# EAGLE library part HY_SX1276 (library lieBtrau)
Order from AliExpress <https://www.aliexpress.com/item/2-pcs-LOra-Spreading-High-Sensitivity-XL1276-D01-XS1278-Wireless-Transceiver-Module-433MHz/32322666735.html>
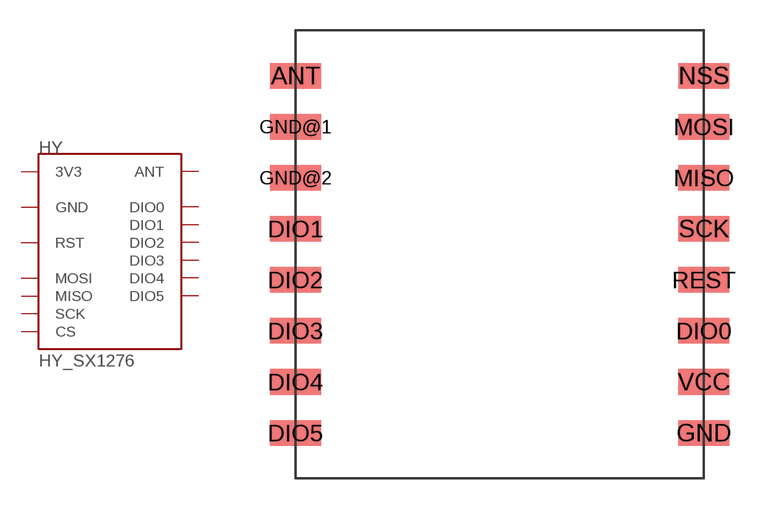
[diagram p11: symbol with the pads of HY_SX1276; footprint HY_SX1276]

Designator prefix HY

## HY_SX1276 (COST: 7.28; ORDERCODE: AliExpress; VALUE: SX1276 MODULE)  [HY_SX1276]
ANT  ANT
DIO0  DIO0
DIO1  DIO1
DIO2  DIO2
DIO3  DIO3
DIO4  DIO4
DIO5  DIO5
GND  GND
GND@1  GND
GND@2  GND
MISO  MISO
MOSI  MOSI
NSS  CS
REST  RST
SCK  SCK
VCC  3V3

## Footprint HY_SX1276 (pad centres in mm)
smd 2.54 x 1.27: ANT -10.16,8.89; DIO0 10.16,-3.81; DIO1 -10.16,1.27; DIO2 -10.16,-1.27; DIO3 -10.16,-3.81; DIO4 -10.16,-6.35; DIO5 -10.16,-8.89; GND 10.16,-8.89; GND@1 -10.16,6.35; GND@2 -10.16,3.81; MISO 10.16,3.81; MOSI 10.16,6.35; NSS 10.16,8.89; REST 10.16,-1.27; SCK 10.16,1.27; VCC 10.16,-6.35